# EAGLE library part MIC2099-1YMTTR (library MIC2099-1YMTTR)
Power Switch/Driver 1:1 P-Channel 1.1A 6-TMLF (1.6x1.6) Source: Datasheet <https://ww1.microchip.com/downloads/en/DeviceDoc/mic2095.pdf>
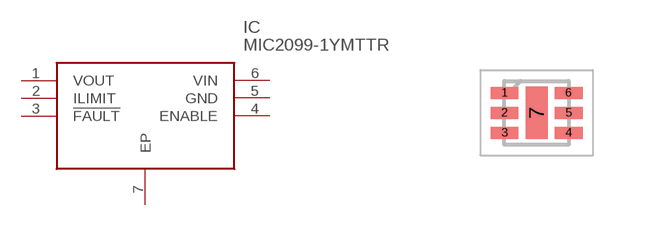
[diagram p0: symbol with the pads of SON50P160X160X60-7N; footprint SON50P160X160X60-7N]

Designator prefix IC

## MIC2099-1YMTTR (Description: Power Switch/Driver 1:1 P-Channel 1.1A 6-TMLF (1.6x1.6); Height: 0.6mm; Manufacturer_Name: Microchip; Manufacturer_Part_Number: MIC2099-1YMTTR)  [SON50P160X160X60-7N]
1  VOUT
2  ILIMIT
3  !FAULT
4  ENABLE
5  GND
6  VIN
7  EP

## Footprint SON50P160X160X60-7N (pad centres in mm)
6-pin 1.6mmx1.6mm tmlf(mt)
smd 0.7 x 0.3: 1 -0.8,0.5; 2 -0.8,0; 3 -0.8,-0.5; 4 0.8,-0.5; 5 0.8,0; 6 0.8,0.5
smd 0.55 x 1.31: 7 0,0